# Altium footprint library SM_L_1806.PcbLib: 1 footprints
Each footprint in its own frame and in the unit in brackets; x right, y up, seen from the top. Pads: shape width x height; smd on the part's side, far side on the other; paste and mask are expansions set on the pad; w line width, h text height; cw(c..) or ccw(c..) is an arc to the next point about the centre after c.
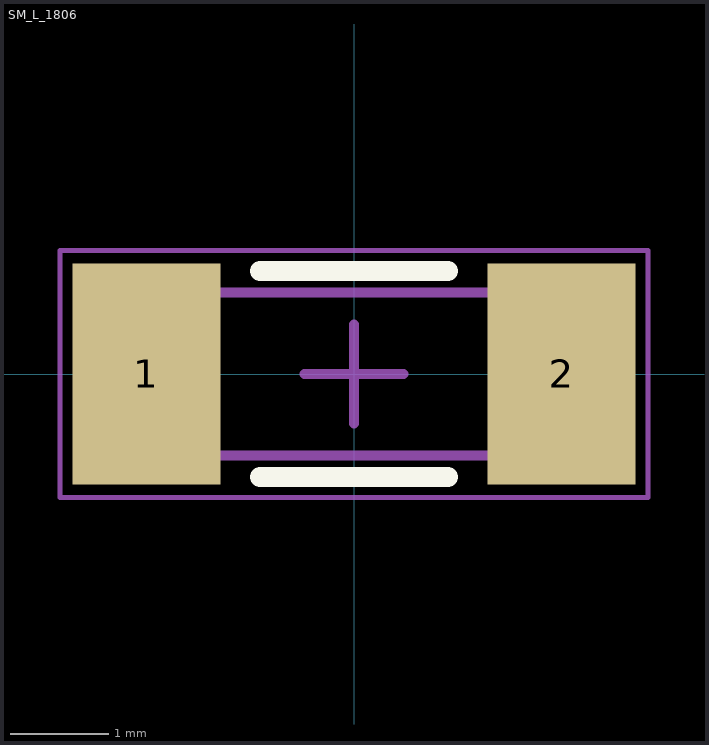
[diagram p0: the footprint, top view; thin cyan lines are the x and y axes]

## SM_L_1806 [mm] "Chip Capacitor, Body 4.5x1.6mm, Height 1.6mm, IPC Medium Density"
height 1.6
pads (2):
  rect 1.5x2.24 smd: 1(-2.1,0) 2(2.1,0)
Top Overlay:
  lines w0.2: -0.95,-1.042 0.95,-1.042 ; -0.95,1.042 0.95,1.042
Mechanical 13:
  lines w0.1: -2.325,-0.825 -2.325,0.825 2.3,0.825 2.3,-0.825 -2.325,-0.825
Mechanical 15:
  lines w0.05: -2.975,-1.25 -2.975,1.25 2.975,1.25 2.975,-1.25 -2.975,-1.25
  lines w0.1: -0.5,0 0.5,0 ; 0,-0.5 0,0.5
3D body: height 1.6, standoff 0, extent -1.65,-0.8 1.625,0.8
3D body: height 1.6, standoff 0, extent -2.25,-0.8 -1.65,0.8
3D body: height 1.6, standoff 0, extent 1.625,-0.8 2.225,0.8